# Altium footprint library 5-103669-2.PcbLib: 1 footprints
Each footprint in its own frame and in the unit in brackets; x right, y up, seen from the top. Pads: shape width x height; smd on the part's side, far side on the other; paste and mask are expansions set on the pad; w line width, h text height; cw(c..) or ccw(c..) is an arc to the next point about the centre after c.
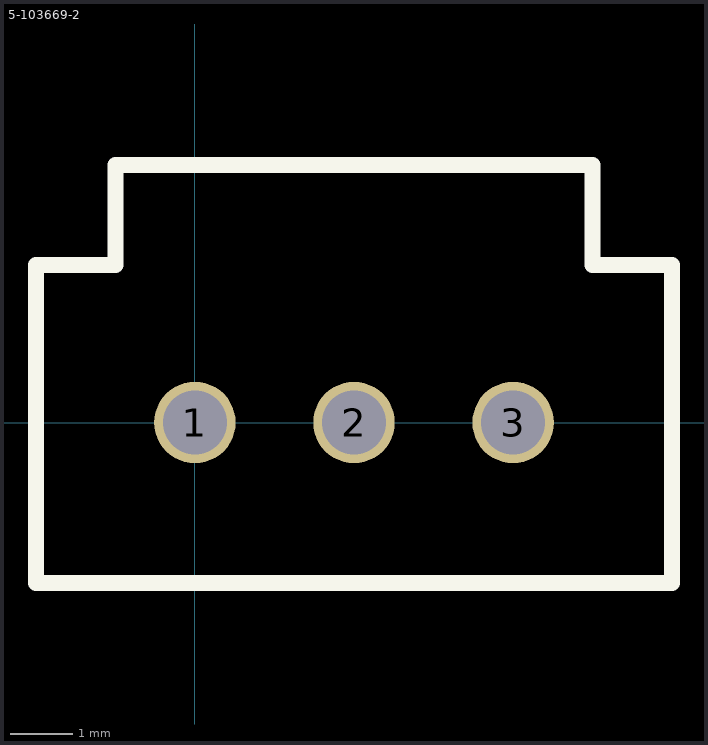
[diagram p0: the footprint, top view; thin cyan lines are the x and y axes]

## 5-103669-2 [mm] "3pos .1\" AMPMODU shrouded header"
height 13.5
pads (3):
  round 1.3 hole 1.02: 1(0,0) 2(2.54,0) 3(5.08,0)
Top Overlay:
  lines w0.254: -2.54,-2.565 7.62,-2.565 7.62,2.515 6.35,2.515 6.35,4.115 -1.27,4.115 -1.27,2.515 -2.54,2.515 -2.54,-2.565
3D body: height 13.59, standoff -3.3, extent -2.54,-2.565 7.62,4.115